# Altium footprint library R8 Bran.PcbLib: 70 footprints (part 2 of 5)
Each footprint in its own frame and in the unit in brackets; x right, y up, seen from the top. Pads: shape width x height; smd on the part's side, far side on the other; paste and mask are expansions set on the pad; w line width, h text height; cw(c..) or ccw(c..) is an arc to the next point about the centre after c.
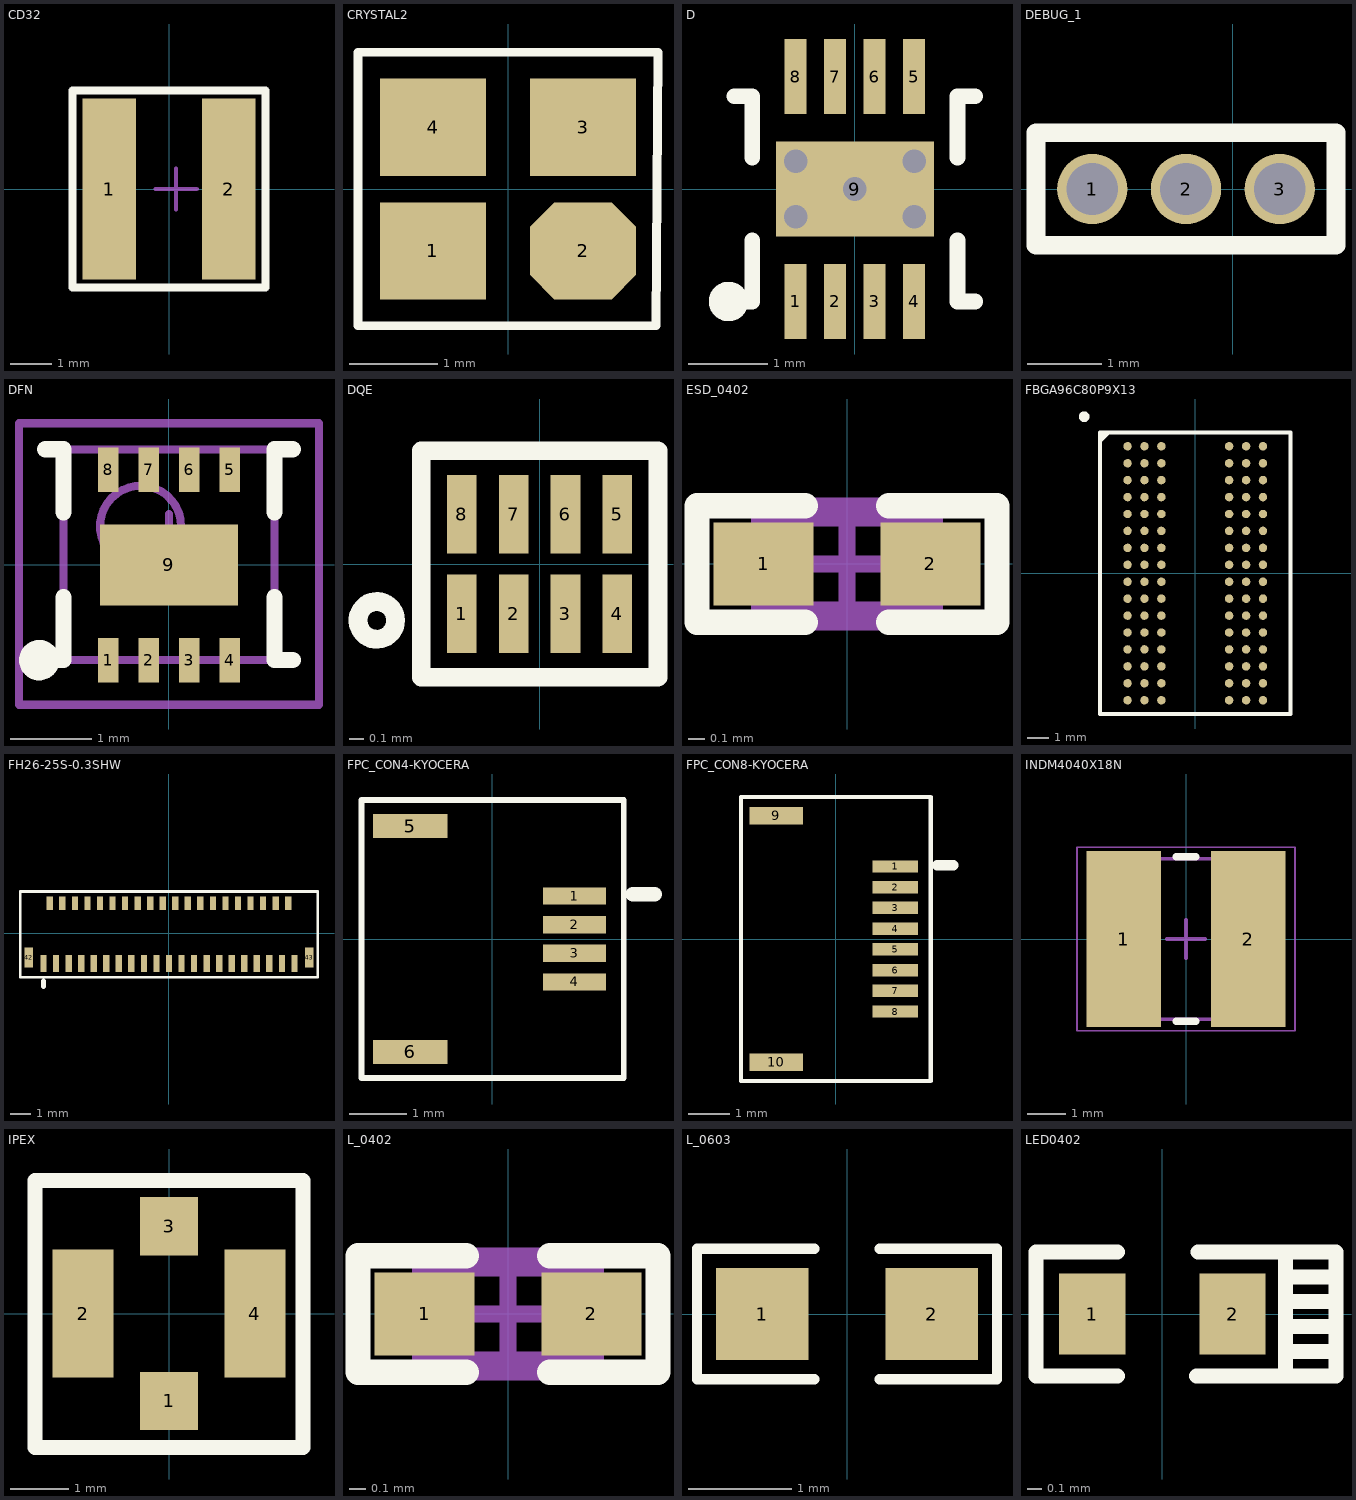
[diagram p1: the footprints below, top view; thin cyan lines are the x and y axes]

## CD32 [mm]
pads (2):
  rect 1.3x4.4 smd: 1(-1.45,0) 2(1.45,0)
Top Overlay:
  lines w0.2: -2.35,-2.4 -2.35,2.4 2.35,2.4 2.35,-2.4 -2.35,-2.4
Mechanical 13:
  lines w0.1: -1.925,-2.1 -1.925,2.1
Mechanical 15:
  lines w0.1: -0.325,0 0.675,0 ; 0.175,-0.5 0.175,0.5
3D body: height 1.8, standoff 0, extent -1.925,-2.1 2.275,2.1

## CRYSTAL2 [mm]
pads (4):
  rect 1.2x1.1 smd: 1(-0.85,-0.7) 3(0.85,0.7) 4(-0.85,0.7)
  oct 1.2x1.1 smd: 2(0.85,-0.7)
Top Overlay:
  lines w0.1: -1.7,-1.549 -1.7,1.55 1.7,1.55 1.676,-1.549 -1.7,-1.549

## D [mm]
pads (9):
  rect 0.28x0.95 smd: 1(-0.75,-1.425) 2(-0.25,-1.425) 3(0.25,-1.425) 4(0.75,-1.425) 5(0.75,1.425) 6(0.25,1.425) 7(-0.25,1.425) 8(-0.75,1.425)
  rect 2x1.2 smd: 9(0,0)
via 0.75,-0.35 diameter 0.3 hole 0.3
via 0.75,0.35 diameter 0.3 hole 0.3
via -0.75,-0.35 diameter 0.3 hole 0.3
via -0.75,0.35 diameter 0.3 hole 0.3
via 0,0 diameter 0.3 hole 0.3
Top Overlay:
  circle w0.25: c-1.6,-1.425 r0.125
  lines w0.2: -1.525,-1.425 -1.3,-1.425 -1.3,-0.65 ; -1.525,1.175 -1.3,1.175 -1.3,0.4 ; 1.3,-0.65 1.3,-1.425 1.525,-1.425 ; 1.3,0.4 1.3,1.175 1.525,1.175
3D body: height 1, standoff 0, extent -1.485,-1.802 1.509,1.302

## DEBUG_1 [mm]
pads (3):
  round 0.95 hole 0.7: 1(-1.905,0) 2(-0.635,0) 3(0.635,0)
Top Overlay:
  lines w0.254: -2.667,-0.762 -2.667,0.762 1.397,0.762 1.397,-0.762 -2.667,-0.762

## DFN [mm]
pads (9):
  rect 0.25x0.55 smd: 1(-0.75,-1.175) 2(-0.25,-1.175) 3(0.25,-1.175) 4(0.75,-1.175) 5(0.75,1.175) 6(0.25,1.175) 7(-0.25,1.175) 8(-0.75,1.175)
  rect 1.7x1 smd: 9(0,0)
Top Overlay:
  circle w0.25: c-1.6,-1.175 r0.125
  lines w0.2: -1.525,-1.175 -1.3,-1.175 -1.3,-0.4 ; -1.525,1.425 -1.3,1.425 -1.3,0.65 ; 1.3,-0.4 1.3,-1.175 1.525,-1.175 ; 1.3,0.65 1.3,1.425 1.525,1.425
Mechanical 13:
  circle w0.1: c-0.35,0.475 r0.5
  lines w0.1: -1.3,-1.175 -1.3,1.425 1.3,1.425 1.3,-1.175 -1.3,-1.175
Mechanical 15:
  lines w0.1: -0.5,0.125 0.5,0.125 ; 0,-0.375 0,0.625 ; -1.85,-1.725 -1.85,1.746 1.85,1.746 1.85,-1.725 -1.85,-1.725
3D body: height 1, standoff 0, extent -1.485,-1.552 1.509,1.552

## DQE [mm]
pads (8):
  rect 0.2x0.53 smd: 1(-0.525,-0.335) 2(-0.175,-0.335) 3(0.175,-0.335) 4(0.525,-0.335) 5(0.525,0.335) 6(0.175,0.335) 7(-0.175,0.335) 8(-0.525,0.335)
Top Overlay:
  circle w0.127: c-1.1,-0.381 r0.127
  lines w0.127: -0.8,-0.765 -0.8,0.765 0.8,0.765 0.8,-0.765 -0.8,-0.765

## ESD_0402 [mm]
pads (2):
  rect 0.6x0.5 smd: 1(-0.5,0) 2(0.5,0)
Top Overlay:
  lines w0.152: -0.25,-0.35 -0.9,-0.35 -0.9,0.35 -0.25,0.35 ; 0.25,-0.35 0.9,-0.35 0.9,0.35 0.25,0.35
Mechanical 13:
  lines w0.1: -0.525,-0.275 0.525,-0.275 0.525,0.275 -0.525,0.275 -0.525,-0.275
Mechanical 15:
  lines w0.1: -0.275,0 0.275,0 ; 0,-0.275 0,0.275 ; -0.9,-0.35 -0.9,0.35 0.9,0.35 0.9,-0.35 -0.9,-0.35
3D body "User Library-0402(1005M) Cap.step": height 0.5, standoff -0.01, extent -0.508,-0.254 0.508,0.254

## FBGA96C80P9X13 [mm]
pads (96):
  round 0.4 smd: A1(-3.2,6) A2(-2.4,6) A3(-1.6,6) A7(1.6,6) A8(2.4,6) A9(3.2,6) B1(-3.2,5.2) B2(-2.4,5.2) B3(-1.6,5.2) B7(1.6,5.2) B8(2.4,5.2) B9(3.2,5.2) C1(-3.2,4.4) C2(-2.4,4.4) C3(-1.6,4.4) C7(1.6,4.4) C8(2.4,4.4) C9(3.2,4.4) D1(-3.2,3.6) D2(-2.4,3.6) D3(-1.6,3.6) D7(1.6,3.6) D8(2.4,3.6) D9(3.2,3.6) E1(-3.2,2.8) E2(-2.4,2.8) E3(-1.6,2.8) E7(1.6,2.8) E8(2.4,2.8) E9(3.2,2.8) F1(-3.2,2) F2(-2.4,2) F3(-1.6,2) F7(1.6,2) F8(2.4,2) F9(3.2,2) G1(-3.2,1.2) G2(-2.4,1.2) G3(-1.6,1.2) G7(1.6,1.2) G8(2.4,1.2) G9(3.2,1.2) H1(-3.2,0.4) H2(-2.4,0.4) H3(-1.6,0.4) H7(1.6,0.4) H8(2.4,0.4) H9(3.2,0.4) J1(-3.2,-0.4) J2(-2.4,-0.4) J3(-1.6,-0.4) J7(1.6,-0.4) J8(2.4,-0.4) J9(3.2,-0.4) K1(-3.2,-1.2) K2(-2.4,-1.2) K3(-1.6,-1.2) K7(1.6,-1.2) K8(2.4,-1.2) K9(3.2,-1.2) L1(-3.2,-2) L2(-2.4,-2) L3(-1.6,-2) L7(1.6,-2) L8(2.4,-2) L9(3.2,-2) M1(-3.2,-2.8) M2(-2.4,-2.8) M3(-1.6,-2.8) M7(1.6,-2.8) M8(2.4,-2.8) M9(3.2,-2.8) N1(-3.2,-3.6) N2(-2.4,-3.6) N3(-1.6,-3.6) N7(1.6,-3.6) N8(2.4,-3.6) N9(3.2,-3.6) P1(-3.2,-4.4) P2(-2.4,-4.4) P3(-1.6,-4.4) P7(1.6,-4.4) P8(2.4,-4.4) P9(3.2,-4.4) R1(-3.2,-5.2) R2(-2.4,-5.2) R3(-1.6,-5.2) R7(1.6,-5.2) R8(2.4,-5.2) R9(3.2,-5.2) T1(-3.2,-6) T2(-2.4,-6) T3(-1.6,-6) T7(1.6,-6) T8(2.4,-6) T9(3.2,-6)
Top Overlay:
  circle w0.25: c-5.25,7.4 r0.125
  lines w0.2: -4.5,6.25 -4.1,6.65 ; -4.5,6.45 -4.3,6.65 ; -4.5,-6.65 4.5,-6.65 4.5,6.65 -4.5,6.65 -4.5,-6.65

## FH26-25S-0.3SHW [mm]
pads (43):
  rect 0.3x0.8 smd: 1(-6,-1.438) 3(-5.4,-1.438) 5(-4.8,-1.438) 7(-4.2,-1.438) 9(-3.6,-1.438) 11(-3,-1.438) 13(-2.4,-1.438) 15(-1.8,-1.438) 17(-1.2,-1.438) 19(-0.6,-1.438) 21(0,-1.438) 23(0.6,-1.438) 25(1.2,-1.438) 27(1.8,-1.438) 29(2.4,-1.438) 31(3,-1.438) 33(3.6,-1.438) 35(4.2,-1.438) 37(4.8,-1.438) 39(5.4,-1.438) 41(6,-1.438)
  rect 0.3x0.65 smd: 2(-5.7,1.438) 4(-5.1,1.438) 6(-4.5,1.438) 8(-3.9,1.438) 10(-3.3,1.438) 12(-2.7,1.438) 14(-2.1,1.438) 16(-1.5,1.438) 18(-0.9,1.438) 20(-0.3,1.438) 22(0.3,1.438) 24(0.9,1.438) 26(1.5,1.438) 28(2.1,1.438) 30(2.7,1.438) 32(3.3,1.438) 34(3.9,1.438) 36(4.5,1.438) 38(5.1,1.438) 40(5.7,1.438)
  rect 0.4x0.95 smd: 42(-6.7,-1.162) 43(6.7,-1.162)
Top Overlay:
  lines w0.127: -7.112,-2.1 -7.112,2 7.112,2 7.112,-2.1 -7.112,-2.1
  lines w0.254: -6,-2.54 -6,-2.286

## FPC_CON4-KYOCERA [mm] "厂家：京瓷，型号：04 6298 704 100 883+"
pads (6):
  rect 1.1x0.3 smd: 1(1.435,0.75) 2(1.435,0.25) 3(1.435,-0.25) 4(1.435,-0.75)
  rect 1.3x0.42 smd: 5(-1.435,1.97) 6(-1.435,-1.97)
Top Overlay:
  lines w0.1: -2.286,-2.429 -2.286,2.429 2.295,2.429 2.295,-2.429 -2.286,-2.429
  lines w0.254: 2.45,0.778 2.831,0.778

## FPC_CON8-KYOCERA [mm] "厂家：京瓷，型号：04 6298 708 100 883+"
pads (10):
  rect 1.1x0.3 smd: 1(1.435,1.75) 2(1.435,1.25) 3(1.435,0.75) 4(1.435,0.25) 5(1.435,-0.25) 6(1.435,-0.75) 7(1.435,-1.25) 8(1.435,-1.75)
  rect 1.3x0.42 smd: 9(-1.435,2.97) 10(-1.435,-2.97)
Top Overlay:
  lines w0.1: -2.286,-3.429 2.295,-3.429 2.295,3.429 -2.286,3.429 -2.286,-3.429
  lines w0.254: 2.45,1.778 2.831,1.778
3D body: height 1, standoff 0, extent -2.187,-3.282 2.087,3.282

## INDM4040X18N [mm] "Molded Inductor, 2-Leads, Body 4.00x4.00mm, IPC Medium Density"
height 1.8
pads (2):
  rect 1.95x4.6 smd: 1(-1.625,0) 2(1.625,0)
Top Overlay:
  lines w0.2: -0.25,-2.15 0.25,-2.15 ; -0.25,2.15 0.25,2.15
Mechanical 13:
  lines w0.1: -2.1,-2.1 2.1,-2.1 2.1,2.1 -2.1,2.1 -2.1,-2.1
Mechanical 15:
  lines w0.05: -2.85,-2.4 2.85,-2.4 2.85,2.4 -2.85,2.4 -2.85,-2.4
  lines w0.1: -0.5,0 0.5,0 ; 0,-0.5 0,0.5
3D body: height 1.8, standoff 0, extent -2.1,-2.1 2.1,2.1

## IPEX [mm] "厂家：Molex，型号：734120110"
pads (4):
  rect 1x1 smd: 1(0,-1.5) 3(0,1.5)
  rect 1.05x2.2 smd: 2(-1.475,0) 4(1.475,0)
Top Overlay:
  lines w0.254: -2.3,2.286 -2.3,-2.3 2.3,-2.3 2.3,2.286 -2.286,2.286

## L_0402 [mm]
pads (2):
  rect 0.6x0.5 smd: 1(-0.5,0) 2(0.5,0)
Top Overlay:
  lines w0.152: -0.25,-0.35 -0.9,-0.35 -0.9,0.35 -0.25,0.35 ; 0.25,-0.35 0.9,-0.35 0.9,0.35 0.25,0.35
Mechanical 13:
  lines w0.1: -0.525,-0.275 -0.525,0.275 0.525,0.275 0.525,-0.275 -0.525,-0.275
Mechanical 15:
  lines w0.1: -0.275,0 0.275,0 ; 0,-0.275 0,0.275 ; -0.9,-0.35 0.9,-0.35 0.9,0.35 -0.9,0.35 -0.9,-0.35
3D body "User Library-0402(1005M) Cap.step": height 0.5, standoff -0.01, extent -0.508,-0.254 0.508,0.254

## L_0603 [mm]
pads (2):
  rect 0.9x0.9 smd: 1(-0.826,0) 2(0.826,0)
Top Overlay:
  lines w0.102: -0.318,-0.635 -1.46,-0.635 -1.46,0.635 -0.318,0.635 ; 0.318,-0.635 1.46,-0.635 1.46,0.635 0.318,0.635
3D body: height 0.9, standoff 0, extent -1.377,-0.552 1.377,0.552

## LED0402 [mm]
pads (2):
  rect 0.45x0.55 smd: 1(-0.475,0) 2(0.475,0)
Top Overlay:
  lines w0.102: -0.303,-0.419 -0.856,-0.419 -0.856,0.419 -0.303,0.419 ; 0.23,-0.419 1.176,-0.419 1.176,0.419 0.242,0.419 ; 0.833,-0.419 0.833,0.419 ; 0.862,-0.253 1.176,-0.253 ; 0.862,-0.085 1.176,-0.085 ; 0.862,0.083 1.176,0.083 ; 0.862,0.251 1.176,0.251
3D body: height 0.5, standoff 0, extent -0.802,-0.377 0.802,0.377